# EAGLE library part SWITCH-SLIDE-DP3T (library LITTLEBITS140826)
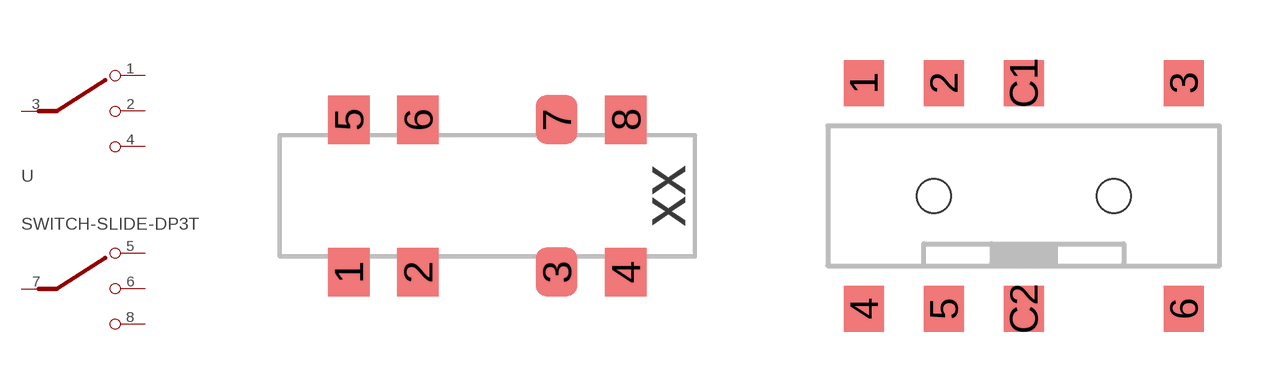
[diagram p70: symbol with the pads of SWITCH-COPAL-CL-SB-23B; footprints SWITCH-COPAL-CL-SB-23B, SWITCH-CK-AYZ0203]

Designator prefix -

## SWITCH-SLIDE-DP3T  [SWITCH-COPAL-CL-SB-23B]
1  P$1  pas
2  P$3  pas
3  P$2  pas
4  P$4  pas
5  P$5  pas
6  P$7  pas
7  P$6  pas
8  P$8  pas

## SWITCH-SLIDE-DP3TAYZ0203  [SWITCH-CK-AYZ0203]
1  P$1  pas
2  P$3  pas
3  P$4  pas
4  P$5  pas
5  P$7  pas
6  P$8  pas
C1  P$2  pas
C2  P$6  pas

## Footprint SWITCH-COPAL-CL-SB-23B (pad centres in mm)
Copal MPN: CL-SB-23B-01T
smd 1.2 x 1.4: 1 -4,-2.2; 2 -2,-2.2; 3 2,-2.2; 4 4,-2.2; 5 -4,2.2; 6 -2,2.2; 7 2,2.2; 8 4,2.2

## Footprint SWITCH-CK-AYZ0203 (pad centres in mm)
smd 1 x 1.15: 1 -4,2.825; 2 -2,2.825; 3 4,2.825; 4 -4,-2.825; 5 -2,-2.825; 6 4,-2.825; C1 0,2.825; C2 0,-2.825
hole 0.85 at -2.25,0
hole 0.85 at 2.25,0